# Altium schematic symbol library WE-FLEX+.SchLib: 15 symbols
Pins are listed as number, name and electrical type; pins without a type are passive.

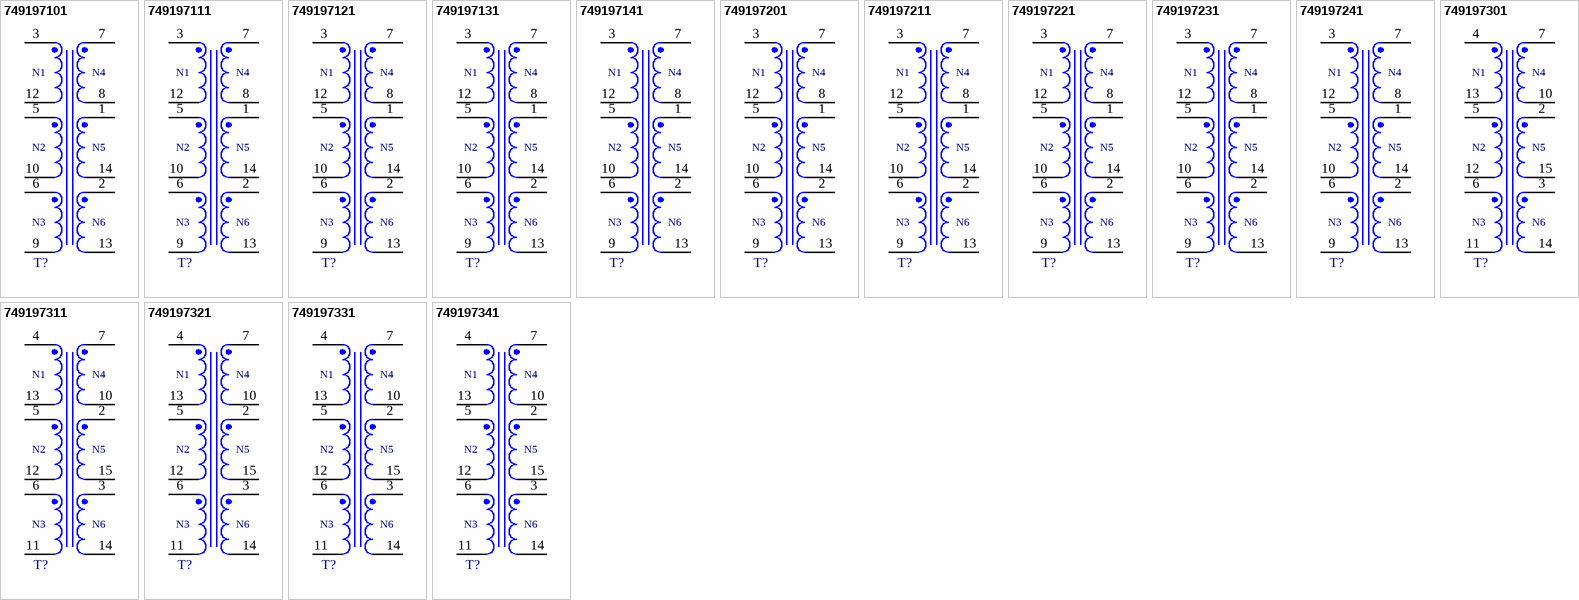
[diagram p0: symbols 749197101 to 749197341]

## 749197101
designator T?, comment 195uH, 2.2A  (value not drawn)
WE-FLEX+ THT Flexible Transformer for DC/DC Converter, ETD29, 195uH, 2.2A; Manufacturer Part Number: 749197101; Manufacturer: Wurth Elektronik; DC Resistance Base: 45mOhm; Insulation Test Voltage: 500VAC; Leakage Inductance Base: 0.32uH; Saturation Current Base: 0.25A; Turns Ratio: 1:1:1:1:1:1; Type: ungapped; Category: Flexible Transformers For SMPS; Match Code: WE-FLEX+; ComponentLink1Description: Website Link; ComponentLink1URL: https://www.we-online.com/redexpert/article/749197101?ad; ComponentLink2Description: Datasheet Link; ComponentLink2URL: https://www.we-online.com/redexpert/spec/749197101?ad; Mount: Through Hole; Operating Temperature Max: 125°C; Operating Temperature Min: -40°C; Packaging: Tray; Case/Size Code: ETD29; Length: 37.21mm; Width: 35.56mm; Height: 31.75mm; Inductance Base: 195uH; Rated Current Base: 2.2A
footprint WE-FLEX+_ETD29
pins: 1, 2, 3, 5, 6, 7, 8, 9, 10, 12, 13, 14
text: N1; N4; N2; N5; N3; N6

## 749197111
designator T?, comment 75.1uH, 2.2A  (value not drawn)
WE-FLEX+ THT Flexible Transformer for DC/DC Converter, ETD29, 75.1uH, 2.2A; Manufacturer Part Number: 749197111; Manufacturer: Wurth Elektronik; DC Resistance Base: 45mOhm; Insulation Test Voltage: 500VAC; Leakage Inductance Base: 0.32uH; Saturation Current Base: 0.4A; Turns Ratio: 1:1:1:1:1:1; Type: gapped; Category: Flexible Transformers For SMPS; Match Code: WE-FLEX+; ComponentLink1Description: Website Link; ComponentLink1URL: https://www.we-online.com/redexpert/article/749197111?ad; ComponentLink2Description: Datasheet Link; ComponentLink2URL: https://www.we-online.com/redexpert/spec/749197111?ad; Mount: Through Hole; Operating Temperature Max: 125°C; Operating Temperature Min: -40°C; Packaging: Tray; Case/Size Code: ETD29; Length: 37.21mm; Width: 35.56mm; Height: 31.75mm; Inductance Base: 75.1uH; Rated Current Base: 2.2A
footprint WE-FLEX+_ETD29
pins: 1, 2, 3, 5, 6, 7, 8, 9, 10, 12, 13, 14
text: N1; N4; N2; N5; N3; N6

## 749197121
designator T?, comment 46.3uH, 2.2A  (value not drawn)
WE-FLEX+ THT Flexible Transformer for DC/DC Converter, ETD29, 46.3uH, 2.2A; Manufacturer Part Number: 749197121; Manufacturer: Wurth Elektronik; DC Resistance Base: 45mOhm; Insulation Test Voltage: 500VAC; Leakage Inductance Base: 0.32uH; Saturation Current Base: 0.83A; Turns Ratio: 1:1:1:1:1:1; Type: gapped; Category: Flexible Transformers For SMPS; Match Code: WE-FLEX+; ComponentLink1Description: Website Link; ComponentLink1URL: https://www.we-online.com/redexpert/article/749197121?ad; ComponentLink2Description: Datasheet Link; ComponentLink2URL: https://www.we-online.com/redexpert/spec/749197121?ad; Mount: Through Hole; Operating Temperature Max: 125°C; Operating Temperature Min: -40°C; Packaging: Tray; Case/Size Code: ETD29; Length: 37.21mm; Width: 35.56mm; Height: 31.75mm; Inductance Base: 46.3uH; Rated Current Base: 2.2A
footprint WE-FLEX+_ETD29
pins: 1, 2, 3, 5, 6, 7, 8, 9, 10, 12, 13, 14
text: N1; N4; N2; N5; N3; N6

## 749197131
designator T?, comment 24.3uH, 2.2A  (value not drawn)
WE-FLEX+ THT Flexible Transformer for DC/DC Converter, ETD29, 24.3uH, 2.2A; Manufacturer Part Number: 749197131; Manufacturer: Wurth Elektronik; DC Resistance Base: 45mOhm; Insulation Test Voltage: 500VAC; Leakage Inductance Base: 0.32uH; Saturation Current Base: 1.83A; Turns Ratio: 1:1:1:1:1:1; Type: gapped; Category: Flexible Transformers For SMPS; Match Code: WE-FLEX+; ComponentLink1Description: Website Link; ComponentLink1URL: https://www.we-online.com/redexpert/article/749197131?ad; ComponentLink2Description: Datasheet Link; ComponentLink2URL: https://www.we-online.com/redexpert/spec/749197131?ad; Mount: Through Hole; Operating Temperature Max: 125°C; Operating Temperature Min: -40°C; Packaging: Tray; Case/Size Code: ETD29; Length: 37.21mm; Width: 35.56mm; Height: 31.75mm; Inductance Base: 24.3uH; Rated Current Base: 2.2A
footprint WE-FLEX+_ETD29
pins: 1, 2, 3, 5, 6, 7, 8, 9, 10, 12, 13, 14
text: N1; N4; N2; N5; N3; N6

## 749197141
designator T?, comment 15uH, 2.2A  (value not drawn)
WE-FLEX+ THT Flexible Transformer for DC/DC Converter, ETD29, 15uH, 2.2A; Manufacturer Part Number: 749197141; Manufacturer: Wurth Elektronik; DC Resistance Base: 45mOhm; Insulation Test Voltage: 500VAC; Leakage Inductance Base: 0.32uH; Saturation Current Base: 3.1A; Turns Ratio: 1:1:1:1:1:1; Type: gapped; Category: Flexible Transformers For SMPS; Match Code: WE-FLEX+; ComponentLink1Description: Website Link; ComponentLink1URL: https://www.we-online.com/redexpert/article/749197141?ad; ComponentLink2Description: Datasheet Link; ComponentLink2URL: https://www.we-online.com/redexpert/spec/749197141?ad; Mount: Through Hole; Operating Temperature Max: 125°C; Operating Temperature Min: -40°C; Packaging: Tray; Case/Size Code: ETD29; Length: 37.21mm; Width: 35.56mm; Height: 31.75mm; Inductance Base: 15uH; Rated Current Base: 2.2A
footprint WE-FLEX+_ETD29
pins: 1, 2, 3, 5, 6, 7, 8, 9, 10, 12, 13, 14
text: N1; N4; N2; N5; N3; N6

## 749197201
designator T?, comment 280uH, 2.5A  (value not drawn)
WE-FLEX+ THT Flexible Transformer for DC/DC Converter, ETD34, 280uH, 2.5A; Manufacturer Part Number: 749197201; Manufacturer: Wurth Elektronik; DC Resistance Base: 51mOhm; Insulation Test Voltage: 500VAC; Leakage Inductance Base: 0.32uH; Saturation Current Base: 0.22A; Turns Ratio: 1:1:1:1:1:1; Type: ungapped; Category: Flexible Transformers For SMPS; Match Code: WE-FLEX+; ComponentLink1Description: Website Link; ComponentLink1URL: https://www.we-online.com/redexpert/article/749197201?ad; ComponentLink2Description: Datasheet Link; ComponentLink2URL: https://www.we-online.com/redexpert/spec/749197201?ad; Mount: Through Hole; Operating Temperature Max: 125°C; Operating Temperature Min: -40°C; Packaging: Tray; Case/Size Code: ETD34; Length: 40.39mm; Width: 39.62mm; Height: 31.49mm; Inductance Base: 280uH; Rated Current Base: 2.5A
footprint WE-FLEX+_ETD34
pins: 1, 2, 3, 5, 6, 7, 8, 9, 10, 12, 13, 14
text: N1; N4; N2; N5; N3; N6

## 749197211
designator T?, comment 113.8uH, 2.5A  (value not drawn)
WE-FLEX+ THT Flexible Transformer for DC/DC Converter, ETD34, 113.8uH, 2.5A; Manufacturer Part Number: 749197211; Manufacturer: Wurth Elektronik; DC Resistance Base: 51mOhm; Insulation Test Voltage: 500VAC; Leakage Inductance Base: 0.32uH; Saturation Current Base: 0.33A; Turns Ratio: 1:1:1:1:1:1; Type: gapped; Category: Flexible Transformers For SMPS; Match Code: WE-FLEX+; ComponentLink1Description: Website Link; ComponentLink1URL: https://www.we-online.com/redexpert/article/749197211?ad; ComponentLink2Description: Datasheet Link; ComponentLink2URL: https://www.we-online.com/redexpert/spec/749197211?ad; Mount: Through Hole; Operating Temperature Max: 125°C; Operating Temperature Min: -40°C; Packaging: Tray; Case/Size Code: ETD34; Length: 40.39mm; Width: 39.62mm; Height: 31.49mm; Inductance Base: 113.8uH; Rated Current Base: 2.5A
footprint WE-FLEX+_ETD34
pins: 1, 2, 3, 5, 6, 7, 8, 9, 10, 12, 13, 14
text: N1; N4; N2; N5; N3; N6

## 749197221
designator T?, comment 69.4uH, 2.5A  (value not drawn)
WE-FLEX+ THT Flexible Transformer for DC/DC Converter, ETD34, 69.4uH, 2.5A; Manufacturer Part Number: 749197221; Manufacturer: Wurth Elektronik; DC Resistance Base: 51mOhm; Insulation Test Voltage: 500VAC; Leakage Inductance Base: 0.32uH; Saturation Current Base: 0.67A; Turns Ratio: 1:1:1:1:1:1; Type: gapped; Category: Flexible Transformers For SMPS; Match Code: WE-FLEX+; ComponentLink1Description: Website Link; ComponentLink1URL: https://www.we-online.com/redexpert/article/749197221?ad; ComponentLink2Description: Datasheet Link; ComponentLink2URL: https://www.we-online.com/redexpert/spec/749197221?ad; Mount: Through Hole; Operating Temperature Max: 125°C; Operating Temperature Min: -40°C; Packaging: Tray; Case/Size Code: ETD34; Length: 40.39mm; Width: 39.62mm; Height: 31.49mm; Inductance Base: 69.4uH; Rated Current Base: 2.5A
footprint WE-FLEX+_ETD34
pins: 1, 2, 3, 5, 6, 7, 8, 9, 10, 12, 13, 14
text: N1; N4; N2; N5; N3; N6

## 749197231
designator T?, comment 36.1uH, 2.5A  (value not drawn)
WE-FLEX+ THT Flexible Transformer for DC/DC Converter, ETD34, 36.1uH, 2.5A; Manufacturer Part Number: 749197231; Manufacturer: Wurth Elektronik; DC Resistance Base: 51mOhm; Insulation Test Voltage: 500VAC; Leakage Inductance Base: 0.32uH; Saturation Current Base: 1.58A; Turns Ratio: 1:1:1:1:1:1; Type: gapped; Category: Flexible Transformers For SMPS; Match Code: WE-FLEX+; ComponentLink1Description: Website Link; ComponentLink1URL: https://www.we-online.com/redexpert/article/749197231?ad; ComponentLink2Description: Datasheet Link; ComponentLink2URL: https://www.we-online.com/redexpert/spec/749197231?ad; Mount: Through Hole; Operating Temperature Max: 125°C; Operating Temperature Min: -40°C; Packaging: Tray; Case/Size Code: ETD34; Length: 40.39mm; Width: 39.62mm; Height: 31.49mm; Inductance Base: 36.1uH; Rated Current Base: 2.5A
footprint WE-FLEX+_ETD34
pins: 1, 2, 3, 5, 6, 7, 8, 9, 10, 12, 13, 14
text: N1; N4; N2; N5; N3; N6

## 749197241
designator T?, comment 22uH, 2.5A  (value not drawn)
WE-FLEX+ THT Flexible Transformer for DC/DC Converter, ETD34, 22uH, 2.5A; Manufacturer Part Number: 749197241; Manufacturer: Wurth Elektronik; DC Resistance Base: 51mOhm; Insulation Test Voltage: 500VAC; Leakage Inductance Base: 0.32uH; Saturation Current Base: 2.91A; Turns Ratio: 1:1:1:1:1:1; Type: gapped; Category: Flexible Transformers For SMPS; Match Code: WE-FLEX+; ComponentLink1Description: Website Link; ComponentLink1URL: https://www.we-online.com/redexpert/article/749197241?ad; ComponentLink2Description: Datasheet Link; ComponentLink2URL: https://www.we-online.com/redexpert/spec/749197241?ad; Mount: Through Hole; Operating Temperature Max: 125°C; Operating Temperature Min: -40°C; Packaging: Tray; Case/Size Code: ETD34; Length: 40.39mm; Width: 39.62mm; Height: 31.49mm; Inductance Base: 22uH; Rated Current Base: 2.5A
footprint WE-FLEX+_ETD34
pins: 1, 2, 3, 5, 6, 7, 8, 9, 10, 12, 13, 14
text: N1; N4; N2; N5; N3; N6

## 749197301
designator T?, comment 326.7uH, 3.2A  (value not drawn)
WE-FLEX+ THT Flexible Transformer for DC/DC Converter, ETD39, 326.7uH, 3.2A; Manufacturer Part Number: 749197301; Manufacturer: Wurth Elektronik; DC Resistance Base: 34mOhm; Insulation Test Voltage: 500VAC; Leakage Inductance Base: 0.35uH; Saturation Current Base: 0.2A; Turns Ratio: 1:1:1:1:1:1; Type: ungapped; Category: Flexible Transformers For SMPS; Match Code: WE-FLEX+; ComponentLink1Description: Website Link; ComponentLink1URL: https://www.we-online.com/redexpert/article/749197301?ad; ComponentLink2Description: Datasheet Link; ComponentLink2URL: https://www.we-online.com/redexpert/spec/749197301?ad; Mount: Through Hole; Operating Temperature Max: 125°C; Operating Temperature Min: -40°C; Packaging: Tray; Case/Size Code: ETD39; Length: 45.72mm; Width: 44.45mm; Height: 37.78mm; Inductance Base: 326.7uH; Rated Current Base: 3.2A
footprint WE-FLEX+_ETD39
pins: 2, 3, 4, 5, 6, 7, 10, 11, 12, 13, 14, 15
text: N1; N4; N2; N5; N3; N6

## 749197311
designator T?, comment 128.5uH, 3.2A  (value not drawn)
WE-FLEX+ THT Flexible Transformer for DC/DC Converter, ETD39, 128.5uH, 3.2A; Manufacturer Part Number: 749197311; Manufacturer: Wurth Elektronik; DC Resistance Base: 34mOhm; Insulation Test Voltage: 500VAC; Leakage Inductance Base: 0.35uH; Saturation Current Base: 0.32A; Turns Ratio: 1:1:1:1:1:1; Type: gapped; Category: Flexible Transformers For SMPS; Match Code: WE-FLEX+; ComponentLink1Description: Website Link; ComponentLink1URL: https://www.we-online.com/redexpert/article/749197311?ad; ComponentLink2Description: Datasheet Link; ComponentLink2URL: https://www.we-online.com/redexpert/spec/749197311?ad; Mount: Through Hole; Operating Temperature Max: 125°C; Operating Temperature Min: -40°C; Packaging: Tray; Case/Size Code: ETD39; Length: 45.72mm; Width: 44.45mm; Height: 37.78mm; Inductance Base: 128.5uH; Rated Current Base: 3.2A
footprint WE-FLEX+_ETD39
pins: 2, 3, 4, 5, 6, 7, 10, 11, 12, 13, 14, 15
text: N1; N4; N2; N5; N3; N6

## 749197321
designator T?, comment 77.3uH, 3.2A  (value not drawn)
WE-FLEX+ THT Flexible Transformer for DC/DC Converter, ETD39, 77.3uH, 3.2A; Manufacturer Part Number: 749197321; Manufacturer: Wurth Elektronik; DC Resistance Base: 34mOhm; Insulation Test Voltage: 500VAC; Leakage Inductance Base: 0.35uH; Saturation Current Base: 0.68A; Turns Ratio: 1:1:1:1:1:1; Type: gapped; Category: Flexible Transformers For SMPS; Match Code: WE-FLEX+; ComponentLink1Description: Website Link; ComponentLink1URL: https://www.we-online.com/redexpert/article/749197321?ad; ComponentLink2Description: Datasheet Link; ComponentLink2URL: https://www.we-online.com/redexpert/spec/749197321?ad; Mount: Through Hole; Operating Temperature Max: 125°C; Operating Temperature Min: -40°C; Packaging: Tray; Case/Size Code: ETD39; Length: 45.72mm; Width: 44.45mm; Height: 37.78mm; Inductance Base: 77.3uH; Rated Current Base: 3.2A
footprint WE-FLEX+_ETD39
pins: 2, 3, 4, 5, 6, 7, 10, 11, 12, 13, 14, 15
text: N1; N4; N2; N5; N3; N6

## 749197331
designator T?, comment 39.4uH, 3.2A  (value not drawn)
WE-FLEX+ THT Flexible Transformer for DC/DC Converter, ETD39, 39.4uH, 3.2A; Manufacturer Part Number: 749197331; Manufacturer: Wurth Elektronik; DC Resistance Base: 34mOhm; Insulation Test Voltage: 500VAC; Leakage Inductance Base: 0.35uH; Saturation Current Base: 1.65A; Turns Ratio: 1:1:1:1:1:1; Type: gapped; Category: Flexible Transformers For SMPS; Match Code: WE-FLEX+; ComponentLink1Description: Website Link; ComponentLink1URL: https://www.we-online.com/redexpert/article/749197331?ad; ComponentLink2Description: Datasheet Link; ComponentLink2URL: https://www.we-online.com/redexpert/spec/749197331?ad; Mount: Through Hole; Operating Temperature Max: 125°C; Operating Temperature Min: -40°C; Packaging: Tray; Case/Size Code: ETD39; Length: 45.72mm; Width: 44.45mm; Height: 37.78mm; Inductance Base: 39.4uH; Rated Current Base: 3.2A
footprint WE-FLEX+_ETD39
pins: 2, 3, 4, 5, 6, 7, 10, 11, 12, 13, 14, 15
text: N1; N4; N2; N5; N3; N6

## 749197341
designator T?, comment 23.7uH, 3.2A  (value not drawn)
WE-FLEX+ THT Flexible Transformer for DC/DC Converter, ETD39, 23.7uH, 3.2A; Manufacturer Part Number: 749197341; Manufacturer: Wurth Elektronik; DC Resistance Base: 34mOhm; Insulation Test Voltage: 500VAC; Leakage Inductance Base: 0.35uH; Saturation Current Base: 3.25A; Turns Ratio: 1:1:1:1:1:1; Type: gapped; Category: Flexible Transformers For SMPS; Match Code: WE-FLEX+; ComponentLink1Description: Website Link; ComponentLink1URL: https://www.we-online.com/redexpert/article/749197341?ad; ComponentLink2Description: Datasheet Link; ComponentLink2URL: https://www.we-online.com/redexpert/spec/749197341?ad; Mount: Through Hole; Operating Temperature Max: 125°C; Operating Temperature Min: -40°C; Packaging: Tray; Case/Size Code: ETD39; Length: 45.72mm; Width: 44.45mm; Height: 37.78mm; Inductance Base: 23.7uH; Rated Current Base: 3.2A
footprint WE-FLEX+_ETD39
pins: 2, 3, 4, 5, 6, 7, 10, 11, 12, 13, 14, 15
text: N1; N4; N2; N5; N3; N6